# EAGLE library part CRUMB128-LIGHT (library chip45_EagleLib_090813)
Crumb128-light Basic OEM module for rapid application development based on Atmel's AVR ATmega128 processor.
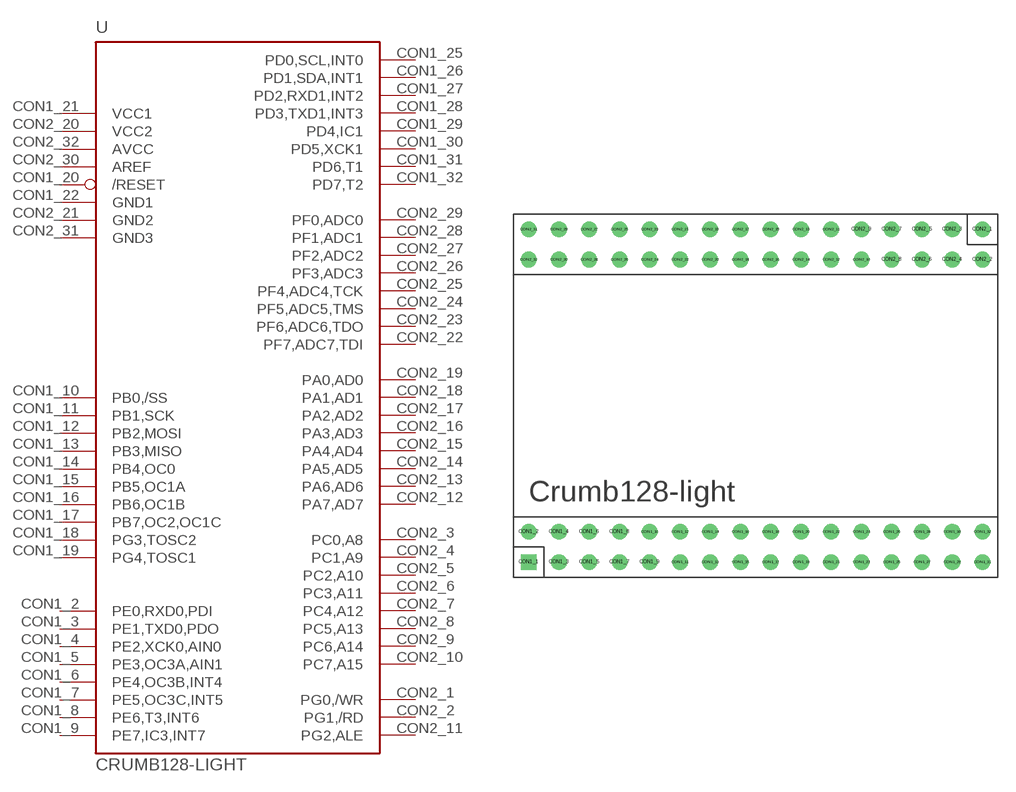
[diagram p2: symbol with the pads of CRUMB128-LIGHT; footprint CRUMB128-LIGHT]

Designator prefix -

## CRUMB128-LIGHT (EEPROM: 4 kB; FLASH: 128 kB; PERIPHERALS: none; PROCESSOR: ATmega128; RAM: 4 kB SRAM)  [CRUMB128-LIGHT]
CON1_2  PE0,RXD0,PDI
CON1_3  PE1,TXD0,PDO
CON1_4  PE2,XCK0,AIN0
CON1_5  PE3,OC3A,AIN1
CON1_6  PE4,OC3B,INT4
CON1_7  PE5,OC3C,INT5
CON1_8  PE6,T3,INT6
CON1_9  PE7,IC3,INT7
CON1_10  PB0,/SS
CON1_11  PB1,SCK
CON1_12  PB2,MOSI
CON1_13  PB3,MISO
CON1_14  PB4,OC0
CON1_15  PB5,OC1A
CON1_16  PB6,OC1B
CON1_17  PB7,OC2,OC1C
CON1_18  PG3,TOSC2
CON1_19  PG4,TOSC1
CON1_20  /RESET  in
CON1_21  VCC1  pwr
CON1_22  GND1  pwr
CON1_25  PD0,SCL,INT0
CON1_26  PD1,SDA,INT1
CON1_27  PD2,RXD1,INT2
CON1_28  PD3,TXD1,INT3
CON1_29  PD4,IC1
CON1_30  PD5,XCK1
CON1_31  PD6,T1
CON1_32  PD7,T2
CON2_1  PG0,/WR
CON2_2  PG1,/RD
CON2_3  PC0,A8
CON2_4  PC1,A9
CON2_5  PC2,A10
CON2_6  PC3,A11
CON2_7  PC4,A12
CON2_8  PC5,A13
CON2_9  PC6,A14
CON2_10  PC7,A15
CON2_11  PG2,ALE
CON2_12  PA7,AD7
CON2_13  PA6,AD6
CON2_14  PA5,AD5
CON2_15  PA4,AD4
CON2_16  PA3,AD3
CON2_17  PA2,AD2
CON2_18  PA1,AD1
CON2_19  PA0,AD0
CON2_20  VCC2  pwr
CON2_21  GND2  pwr
CON2_22  PF7,ADC7,TDI
CON2_23  PF6,ADC6,TDO
CON2_24  PF5,ADC5,TMS
CON2_25  PF4,ADC4,TCK
CON2_26  PF3,ADC3
CON2_27  PF2,ADC2
CON2_28  PF1,ADC1
CON2_29  PF0,ADC0
CON2_30  AREF  in
CON2_31  GND3  pwr
CON2_32  AVCC  in

## Footprint CRUMB128-LIGHT (pad centres in mm)
Crumb128-light On just 40x30mm size, Crumb128-light offers: the ATmega128 microcontroller, standard 6-pin AVR ISP header for in-system programming, XTAL crystal (frequency selectable as option), pin headers with all ATmega128 signals, pinout is compatible to Crumb128 module.
drill 0.8 square: CON1_1 -19.05,-13.97
drill 0.8 round: CON1_2 -19.05,-11.43; CON1_3 -16.51,-13.97; CON1_4 -16.51,-11.43; CON1_5 -13.97,-13.97; CON1_6 -13.97,-11.43; CON1_7 -11.43,-13.97; CON1_8 -11.43,-11.43; CON1_9 -8.89,-13.97; CON1_10 -8.89,-11.43; CON1_11 -6.35,-13.97; CON1_12 -6.35,-11.43; CON1_13 -3.81,-13.97; CON1_14 -3.81,-11.43; CON1_15 -1.27,-13.97; CON1_16 -1.27,-11.43; CON1_17 1.27,-13.97; CON1_18 1.27,-11.43; CON1_19 3.81,-13.97; CON1_20 3.81,-11.43; CON1_21 6.35,-13.97; CON1_22 6.35,-11.43; CON1_23 8.89,-13.97; CON1_24 8.89,-11.43; CON1_25 11.43,-13.97; CON1_26 11.43,-11.43; CON1_27 13.97,-13.97; CON1_28 13.97,-11.43; CON1_29 16.51,-13.97; CON1_30 16.51,-11.43; CON1_31 19.05,-13.97; CON1_32 19.05,-11.43; CON2_1 19.05,13.97; CON2_2 19.05,11.43; CON2_3 16.51,13.97; CON2_4 16.51,11.43; CON2_5 13.97,13.97; CON2_6 13.97,11.43; CON2_7 11.43,13.97; CON2_8 11.43,11.43; CON2_9 8.89,13.97; CON2_10 8.89,11.43; CON2_11 6.35,13.97; CON2_12 6.35,11.43; CON2_13 3.81,13.97; CON2_14 3.81,11.43; CON2_15 1.27,13.97; CON2_16 1.27,11.43; CON2_17 -1.27,13.97; CON2_18 -1.27,11.43; CON2_19 -3.81,13.97; CON2_20 -3.81,11.43; CON2_21 -6.35,13.97; CON2_22 -6.35,11.43; CON2_23 -8.89,13.97; CON2_24 -8.89,11.43; CON2_25 -11.43,13.97; CON2_26 -11.43,11.43; CON2_27 -13.97,13.97; CON2_28 -13.97,11.43; CON2_29 -16.51,13.97; CON2_30 -16.51,11.43; CON2_31 -19.05,13.97; CON2_32 -19.05,11.43